# EAGLE library part ROHM-SMLV56 (library led)
http://www.digikey.com/product-search/en?vendor=0&keywords=846-1000-1-ND
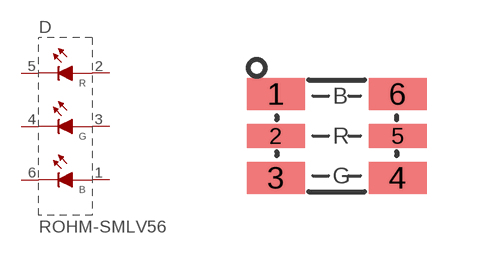
[diagram p12: symbol with the pads of 6-SMD; footprint 6-SMD]

Designator prefix D

## ROHM-SMLV56 (DIGIKEY: 846-1000-1-ND)  [6-SMD]
1  AB  pas
2  AR  pas
3  AG  pas
4  CG  pas
5  CR  pas
6  CB  pas

## Footprint 6-SMD (pad centres in mm)
smd 1.45 x 0.8: 1 -1.525,1.05; 3 -1.525,-1.05; 4 1.525,-1.05; 6 1.525,1.05
smd 1.45 x 0.6: 2 -1.525,0; 5 1.525,0